# EAGLE library part LT3990 (library PowerProducts)
LT-Spice library generated with : ltspice.ulp from: D:/Program Files (x86)/LTC/LTspiceIV/lib/sym/PowerProducts/LTC3025*.asy at 07.10.2012 17:08:03
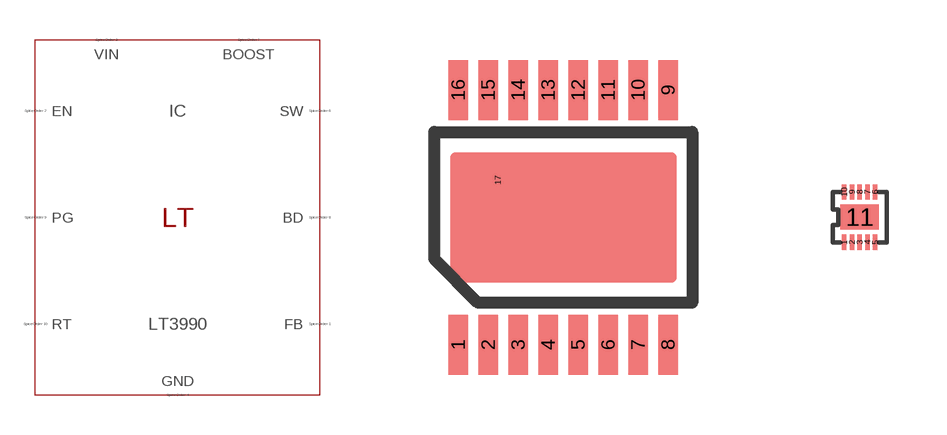
[diagram p109: symbol with the pads of MSOP16(MSE); footprints MSOP16(MSE), DFN10(DD)]

Designator prefix IC

## LT3990MSE (SPICEMODEL: LT3990.sub; SPICEPREFIX: X; VALUE2: LT3990)  [MSOP16(MSE)]
1  FB  pas
2  FB  pas
4  EN  pas
6  VIN  pas
8  GND  pas
9  SW  pas
11  BOOST  pas
13  BD  pas
14  PG  pas
16  RT  pas
17  GND  pas

## LT3990 (SPICEMODEL: LT3990.sub; SPICEPREFIX: X; VALUE2: LT3990)  [DFN10(DD)]
1  FB  pas
2  EN  pas
3  VIN  pas
4  GND  pas
5  GND  pas
6  SW  pas
7  BOOST  pas
8  BD  pas
9  PG  pas
10  RT  pas
11  GND  pas

## Footprint MSOP16(MSE) (pad centres in mm)
Package generated from: MSOP16(MSE).asc (!PADS-POWERPCB-V9.3-BASIC! DESIGN DATABASE ASCII FILE 1.0) with :import-pads-powerpcb-v5.ulp Version 1.0.1 at 04.10.2012 14:11:19
smd 0.495 x 1.5: 1 -2.625,-3.188; 2 -1.875,-3.188; 3 -1.125,-3.188; 4 -0.375,-3.188; 5 0.375,-3.188; 6 1.125,-3.188; 7 1.875,-3.188; 8 2.625,-3.188; 9 2.625,3.188; 10 1.875,3.188; 11 1.125,3.188; 12 0.375,3.188; 13 -0.375,3.188; 14 -1.125,3.188; 15 -1.875,3.188; 16 -2.625,3.188
smd 0 x 0.525: 17 -1.635,0.93

## Footprint DFN10(DD) (pad centres in mm)
Package generated from: DFN10(DD).asc (!PADS-POWERPCB-V9.3-BASIC! DESIGN DATABASE ASCII FILE 1.0) with :import-pads-powerpcb-v5.ulp Version 1.0.1 at 04.10.2012 14:11:16
smd 0.116 x 0.387: 1 -0.387,-0.629; 2 -0.194,-0.629; 3 0,-0.629; 4 0.194,-0.629; 5 0.387,-0.629; 6 0.387,0.629; 7 0.194,0.629; 8 0,0.629; 9 -0.194,0.629; 10 -0.387,0.629
smd 0.968 x 0.629: 11 0,0